# Altium footprint library PQ3218.PcbLib: 1 footprints
Each footprint in its own frame and in the unit in brackets; x right, y up, seen from the top. Pads: shape width x height; smd on the part's side, far side on the other; paste and mask are expansions set on the pad; w line width, h text height; cw(c..) or ccw(c..) is an arc to the next point about the centre after c.
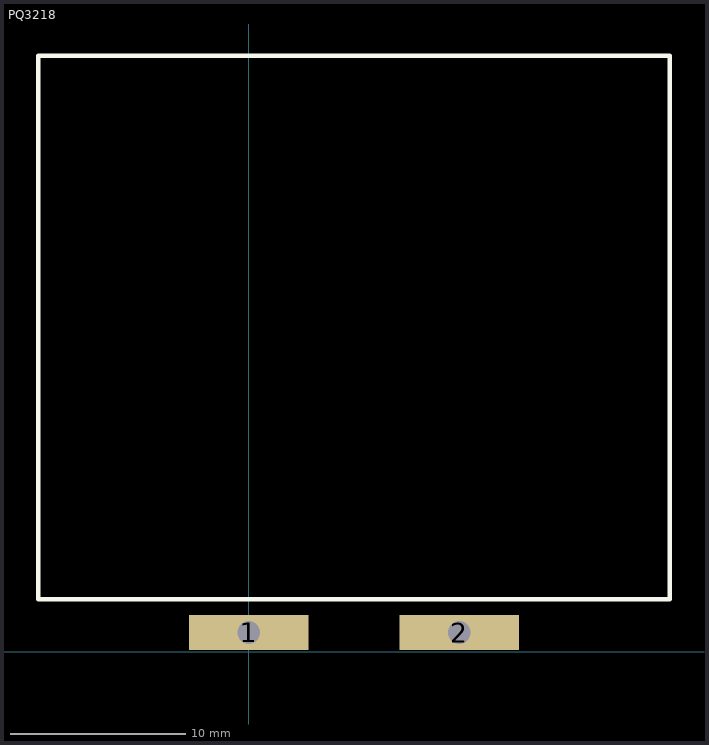
[diagram p0: the footprint, top view; thin cyan lines are the x and y axes]

## PQ3218 [mm]
pads (2):
  rect 6.8x2 hole 1.3 square: 1(0,1.1) 2(12,1.1)
Top Overlay:
  lines w0.254: -12,3 24,3 24,34 -12,34 -12,3
3D body: height 18, standoff 0, extent -10,7.1 22,29.6
3D body: height 13, standoff -2.5, extent -3,0.5 3,1.7
3D body: height 6, standoff -2.5, extent 9,0.5 15,1.7
3D body: height 13, standoff 11.8, extent -3,1.5 3,8.1
3D body: height 6, standoff 4.8, extent 9,1.5 15,8.1
3D body: height 13, standoff 6, extent -7,5.354 19,31.347